# EAGLE library part PADI-IOT-STAMP (library ido)
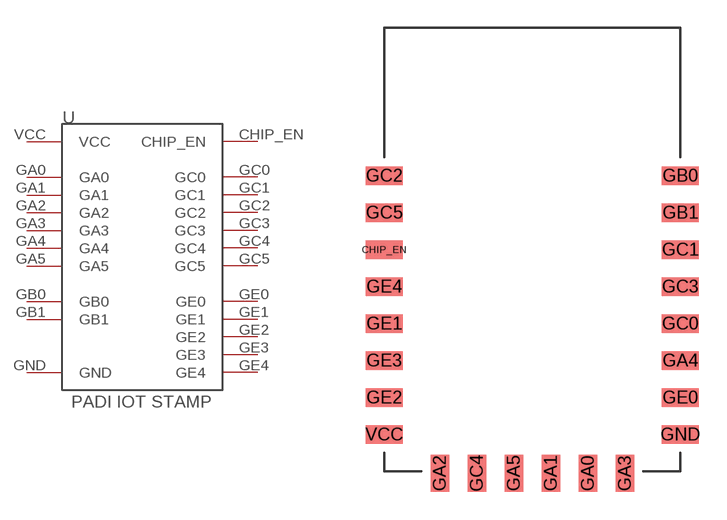
[diagram p0: symbol with the pads of PADI-IOT-STAMP; footprint PADI-IOT-STAMP]

Designator prefix U

## PADI-IOT-STAMP  [PADI-IOT-STAMP]
CHIP_EN  CHIP_EN
GA0  GA0
GA1  GA1
GA2  GA2
GA3  GA3
GA4  GA4
GA5  GA5
GB0  GB0
GB1  GB1
GC0  GC0
GC1  GC1
GC2  GC2
GC3  GC3
GC4  GC4
GC5  GC5
GE0  GE0
GE1  GE1
GE2  GE2
GE3  GE3
GE4  GE4
GND  GND
VCC  VCC

## Footprint PADI-IOT-STAMP (pad centres in mm)
smd 2 x 1: CHIP_EN 0,10; GA4 16,4; GB0 16,14; GB1 16,12; GC0 16,6; GC1 16,10; GC2 0,14; GC3 16,8; GC5 0,12; GE0 16,2; GE1 0,6; GE2 0,2; GE3 0,4; GE4 0,8; GND 16,0; VCC 0,0
smd 1 x 2: GA0 11,-2.1; GA1 9,-2.1; GA2 3,-2.1; GA3 13,-2.1; GA5 7,-2.1; GC4 5,-2.1